# Altium schematic symbol library TN4015H-6I.SchLib: 1 symbol
Pins are listed as number, name and electrical type; pins without a type are passive.

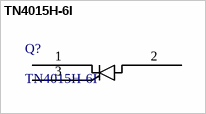
[diagram p0: symbol TN4015H-6I]

## TN4015H-6I
designator Q?
High Temperature 40A SCRs; Manufacturer_Name: STMicroelectronics; Copyright: Copyright (C) 2026 Ultra Librarian. All rights reserved.; Manufacturer_Part_Number: TN4015H-6I; RefDes: RefDes; Type: Type
footprint TN4015H-6I_STM
pins: 1, 2, 3